# Altium footprint library Led Lighting.PcbLib: 1 footprints
Each footprint in its own frame and in the unit in brackets; x right, y up, seen from the top. Pads: shape width x height; smd on the part's side, far side on the other; paste and mask are expansions set on the pad; w line width, h text height; cw(c..) or ccw(c..) is an arc to the next point about the centre after c.
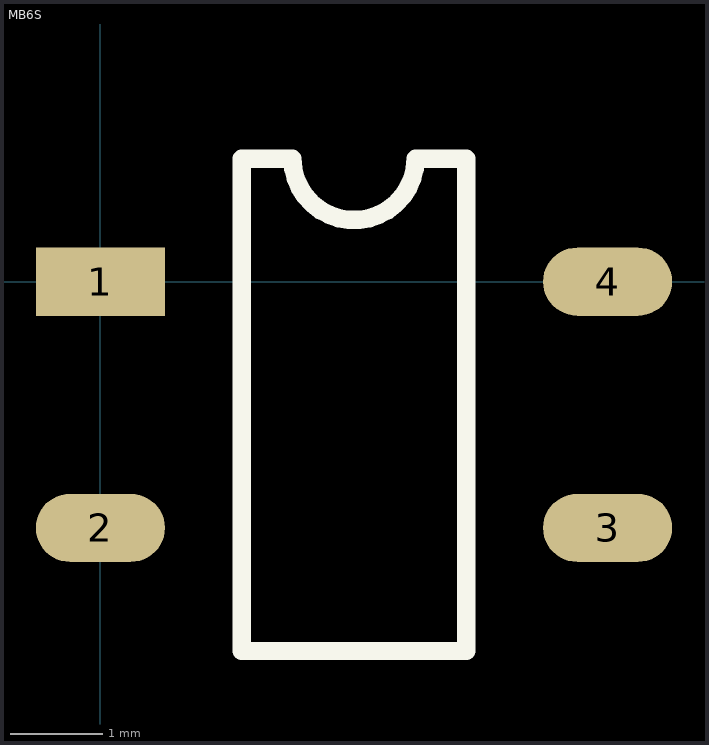
[diagram p0: the footprint, top view; thin cyan lines are the x and y axes]

## MB6S [mm]
pads (4):
  rect 1.4x0.74 smd: 1(0,0)
  oval 1.4x0.74 smd: 2(0,-2.67) 3(5.5,-2.67) 4(5.5,0)
Top Overlay:
  lines w0.2: 1.535,-4.005 1.535,1.335 2.083,1.335 ccw(c2.75,1.335) 3.417,1.335 3.965,1.335 3.965,-4.005 1.535,-4.005